# EAGLE library part DACX311 (library CalvEngIO-DigitalIC)
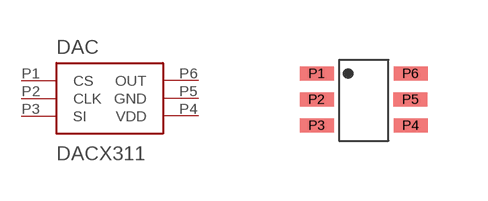
[diagram p7: symbol with the pads of SC-70-6; footprint SC-70-6]

Designator prefix DAC

## DACX311  [SC-70-6]
P1  CS
P2  CLK
P3  SI
P4  VDD
P5  GND
P6  OUT

## Footprint SC-70-6 (pad centres in mm)
smd 0.85 x 0.35: P1 -1.176,0.611; P2 -1.18,-0.038; P3 -1.176,-0.689; P4 1.172,-0.689; P5 1.168,-0.038; P6 1.172,0.611